# EAGLE library part MOLEX-M10 (library CaliBeta-Conectores)
Conector ZCN de 5 pines, separacion 2.54mm
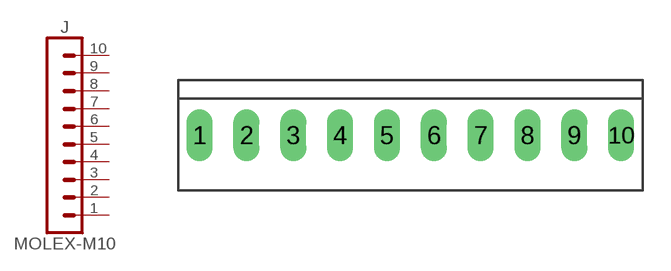
[diagram p0: symbol with the pads of MOLEX-2.54MM-M10; footprint MOLEX-2.54MM-M10]

Designator prefix J

## MOLEX-M10  [MOLEX-2.54MM-M10]
1  1  pas
2  2  pas
3  3  pas
4  4  pas
5  5  pas
6  6  pas
7  7  pas
8  8  pas
9  9  pas
10  10  pas

## Footprint MOLEX-2.54MM-M10 (pad centres in mm)
drill 0.9 long: 1 -11.43,0; 2 -8.89,0; 3 -6.35,0; 4 -3.81,0; 5 -1.27,0; 6 1.27,0; 7 3.81,0; 8 6.35,0; 9 8.89,0; 10 11.43,0